# Altium footprint library bosch_bme280.PcbLib: 2 footprints
Each footprint in its own frame and in the unit in brackets; x right, y up, seen from the top. Pads: shape width x height; smd on the part's side, far side on the other; paste and mask are expansions set on the pad; w line width, h text height; cw(c..) or ccw(c..) is an arc to the next point about the centre after c.
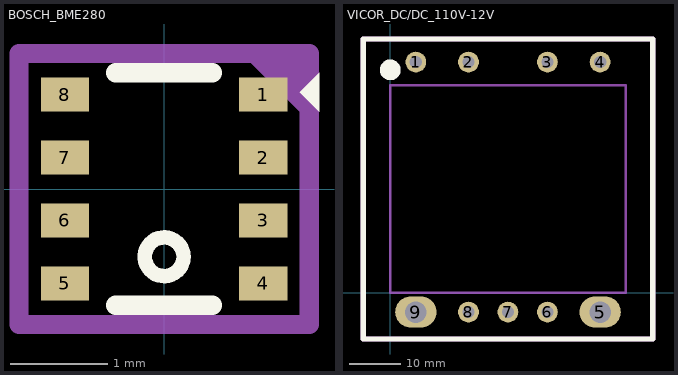
[diagram p0: the footprints below, top view; thin cyan lines are the x and y axes]

## BOSCH_BME280 [mm]
height 0.93
pads (8):
  rect 0.5x0.35 smd: 1(1.025,0.975) 2(1.025,0.325) 3(1.025,-0.325) 4(1.025,-0.975) 5(-1.025,-0.975) 6(-1.025,-0.325) 7(-1.025,0.325) 8(-1.025,0.975)
Top Overlay:
  circle w0.15: c0,-0.7 r0.2
  region: 1.4,1 1.6,1.2 1.6,0.8
  lines w0.2: -0.5,-1.2 0.5,-1.2 ; -0.5,1.2 0.5,1.2
Top Courtyard:
  region: 1.5,1.4 0.8,1.4 1.5,0.7
  lines w0.2: -1.5,-1.4 -1.5,1.4 1.5,1.4 1.5,-1.4 -1.5,-1.4
Top Designator (Mech17):
  text ".Designator" at -0.9,-0.167 h0.4
3D body "BME280.STEP": height 1.01, standoff 0.01, extent -1.25,-1.25 1.25,1.25

## VICOR_DC/DC_110V-12V [mm] "Long Style"
pads (9):
  round 4 hole 2.39: 1(4.95,44.51) 2(15.11,44.51) 3(30.35,44.51) 4(40.51,44.51) 6(30.35,-3.748) 7(22.73,-3.748) 8(15.11,-3.75)
  oval 8x6 hole 4.16: 5(40.51,-3.75) 9(4.95,-3.75)
Top Overlay:
  circle w2: c0,43 r1
  lines w1: -5.205,-8.955 50.675,-8.955 50.675,48.955 -5.205,48.955 -5.205,-8.955
Top 3D Body:
  lines w0.5: 0,0 45.47,0 45.47,40.04 0,40.04 0,0
Top Courtyard:
  lines w1: -5.205,-8.955 -5.205,48.955 50.675,48.955 50.675,-8.955 -5.205,-8.955
3D body: height 13.5, standoff 0, extent 0,0.04 45.47,40.04